# Altium footprint library Components - 29.04.22 - 09.29.PcbLib: 4 footprints
Each footprint in its own frame and in the unit in brackets; x right, y up, seen from the top. Pads: shape width x height; smd on the part's side, far side on the other; paste and mask are expansions set on the pad; w line width, h text height; cw(c..) or ccw(c..) is an arc to the next point about the centre after c.
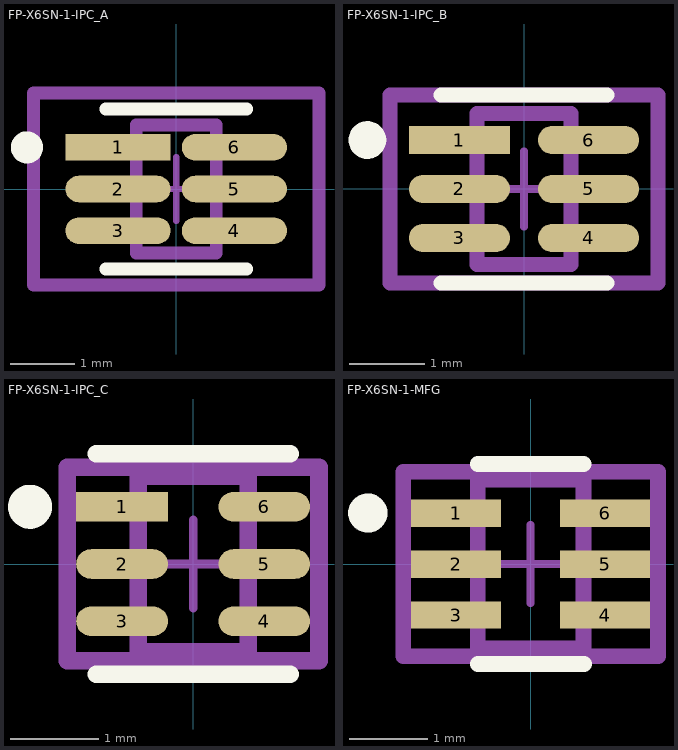
[diagram p0: the footprints below, top view; thin cyan lines are the x and y axes]

## FP-X6SN-1-IPC_A [mm]
pads (6):
  rect 1.641x0.416 smd paste+0 mask+0: 1(-0.908,0.65)
  rrect100% 1.641x0.416 smd paste+0 mask+0: 2(-0.908,0) 3(-0.908,-0.65) 4(0.908,-0.65) 5(0.908,0) 6(0.908,0.65)
Top Overlay:
  circle w0.25: c-2.329,0.65 r0.125
  lines w0.2: -1.1,-1.25 1.1,-1.25 ; -1.1,1.25 1.1,1.25
Mechanical 5:
  lines w0.2: -2.229,-1.5 2.229,-1.5 2.229,1.5 -2.229,1.5 -2.229,-1.5
  text ".Designator" at 0,0.188 h1
Mechanical 13:
  lines w0.2: -0.625,-1 0.625,-1 0.625,1 -0.625,1 -0.625,-1
Mechanical 15:
  lines w0.2: -2.229,-1.5 2.229,-1.5 2.229,1.5 -2.229,1.5 -2.229,-1.5
Mechanical 16:
  lines w0.1: -0.5,0 0.5,0 ; 0,-0.5 0,0.5
3D body "IC_Maxim_Integrated_MAX4245AXT+T_eec.STEP": height 0.25, standoff 0, extent -2.229,-1.5 2.229,1.5

## FP-X6SN-1-IPC_B [mm]
pads (6):
  rect 1.341x0.376 smd paste+0 mask+0: 1(-0.858,0.65)
  rrect100% 1.341x0.376 smd paste+0 mask+0: 2(-0.858,0) 3(-0.858,-0.65) 4(0.858,-0.65) 5(0.858,0) 6(0.858,0.65)
Top Overlay:
  circle w0.25: c-2.079,0.65 r0.125
  lines w0.2: -1.1,-1.25 1.1,-1.25 ; -1.1,1.25 1.1,1.25
Mechanical 5:
  lines w0.2: -1.779,-1.25 1.779,-1.25 1.779,1.25 -1.779,1.25 -1.779,-1.25
  text ".Designator" at 0,0.188 h1
Mechanical 13:
  lines w0.2: -0.625,-1 0.625,-1 0.625,1 -0.625,1 -0.625,-1
Mechanical 15:
  lines w0.2: -1.779,-1.25 1.779,-1.25 1.779,1.25 -1.779,1.25 -1.779,-1.25
Mechanical 16:
  lines w0.1: -0.5,0 0.5,0 ; 0,-0.5 0,0.5
3D body "IC_Maxim_Integrated_MAX4245AXT+T_eec.STEP": height 0.25, standoff 0, extent -1.779,-1.25 1.779,1.25

## FP-X6SN-1-IPC_C [mm]
pads (6):
  rect 1.041x0.336 smd paste+0 mask+0: 1(-0.808,0.65)
  rrect100% 1.041x0.336 smd paste+0 mask+0: 2(-0.808,0) 3(-0.808,-0.65) 4(0.808,-0.65) 5(0.808,0) 6(0.808,0.65)
Top Overlay:
  circle w0.25: c-1.854,0.65 r0.125
  lines w0.2: -1.1,-1.25 1.1,-1.25 ; -1.1,1.25 1.1,1.25
Mechanical 5:
  lines w0.2: -1.429,-1.1 1.429,-1.1 1.429,1.1 -1.429,1.1 -1.429,-1.1
  text ".Designator" at 0,0.188 h1
Mechanical 13:
  lines w0.2: -0.625,-1 0.625,-1 0.625,1 -0.625,1 -0.625,-1
Mechanical 15:
  lines w0.2: -1.429,-1.1 1.429,-1.1 1.429,1.1 -1.429,1.1 -1.429,-1.1
Mechanical 16:
  lines w0.1: -0.5,0 0.5,0 ; 0,-0.5 0,0.5
3D body "IC_Maxim_Integrated_MAX4245AXT+T_eec.STEP": height 0.25, standoff 0, extent -1.429,-1.1 1.429,1.1

## FP-X6SN-1-MFG [mm]
pads (6):
  rect 1.15x0.35 smd paste+0 mask+0: 1(-0.95,0.65) 2(-0.95,0) 3(-0.95,-0.65) 4(0.95,-0.65) 5(0.95,0) 6(0.95,0.65)
Top Overlay:
  circle w0.25: c-2.075,0.65 r0.125
  lines w0.2: -0.675,1.275 0.675,1.275 ; -0.67,-1.274 0.68,-1.274
Mechanical 5:
  lines w0.2: -1.625,-1.175 1.625,-1.175 1.625,1.175 -1.625,1.175 -1.625,-1.175
  text ".Designator" at 0,0.188 h1
Mechanical 13:
  lines w0.2: -0.675,-1.075 0.675,-1.075 0.675,1.075 -0.675,1.075 -0.675,-1.075
Mechanical 15:
  lines w0.2: -1.625,-1.175 1.625,-1.175 1.625,1.175 -1.625,1.175 -1.625,-1.175
Mechanical 16:
  lines w0.1: -0.5,0 0.5,0 ; 0,-0.5 0,0.5
3D body "IC_Maxim_Integrated_MAX4245AXT+T_eec.STEP": height 0.25, standoff 0, extent -1.625,-1.175 1.625,1.175